# Altium schematic symbol library STN3N45K3.SchLib: 1 symbol
Pins are listed as number, name and electrical type; pins without a type are passive.

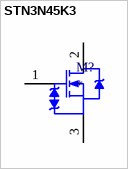
[diagram p0: symbol STN3N45K3]

## STN3N45K3
designator M?
MfrPartNo: *
pins: 1 G, 2 D, 3 S, 4 D